# EAGLE library part DUMMY/PLCC68 (library F030NG)
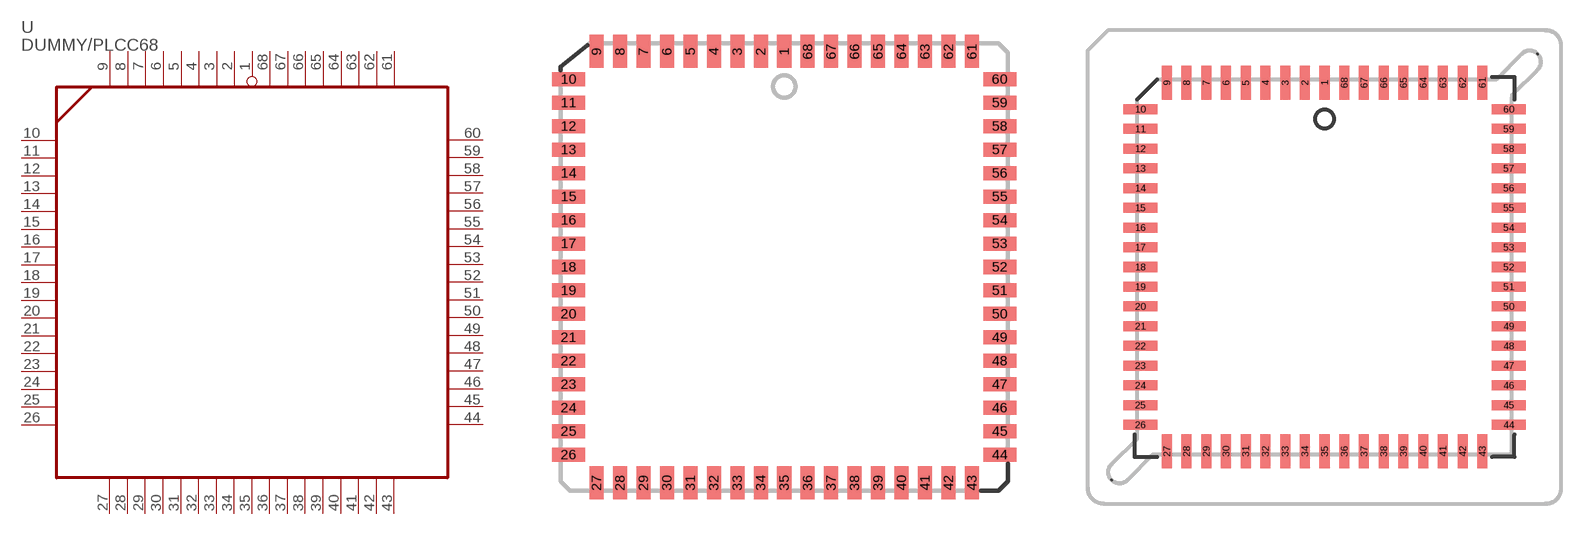
[diagram p95: symbol with the pads of PLCC68; footprints PLCC68, PLCC68S]

Designator prefix -

## DUMMY/PLCC68  [PLCC68]
1  P1
2  P2
3  P3
4  P4
5  P5
6  P6
7  P7
8  P8
9  P9
10  P10
11  P11
12  P12
13  P13
14  P14
15  P15
16  P16
17  P17
18  P18
19  P19
20  P20
21  P21
22  P22
23  P23
24  P24
25  P25
26  P26
27  P27
28  P28
29  P29
30  P30
31  P31
32  P32
33  P33
34  P34
35  P35
36  P36
37  P37
38  P38
39  P39
40  P40
41  P41
42  P42
43  P43
44  P44
45  P45
46  P46
47  P47
48  P48
49  P49
50  P50
51  P51
52  P52
53  P53
54  P54
55  P55
56  P56
57  P57
58  P58
59  P59
60  P60
61  P61
62  P62
63  P63
64  P64
65  P65
66  P66
67  P67
68  P68

## DUMMY/PLCC68SCKT  [PLCC68S]
Pads as for PLCC68

## Footprint PLCC68 (pad centres in mm)
PLASTIC LEADED CHIP CARRIER square
smd 0.76 x 1.8: 1 0,11.67; 2 -1.27,11.67; 3 -2.54,11.67; 4 -3.81,11.67; 5 -5.08,11.67; 6 -6.35,11.67; 7 -7.62,11.67; 8 -8.89,11.67; 9 -10.16,11.67; 27 -10.16,-11.67; 28 -8.89,-11.67; 29 -7.62,-11.67; 30 -6.35,-11.67; 31 -5.08,-11.67; 32 -3.81,-11.67; 33 -2.54,-11.67; 34 -1.27,-11.67; 35 0,-11.67; 36 1.27,-11.67; 37 2.54,-11.67; 38 3.81,-11.67; 39 5.08,-11.67; 40 6.35,-11.67; 41 7.62,-11.67; 42 8.89,-11.67; 43 10.16,-11.67; 61 10.16,11.67; 62 8.89,11.67; 63 7.62,11.67; 64 6.35,11.67; 65 5.08,11.67; 66 3.81,11.67; 67 2.54,11.67; 68 1.27,11.67
smd 1.8 x 0.76: 10 -11.67,10.16; 11 -11.67,8.89; 12 -11.67,7.62; 13 -11.67,6.35; 14 -11.67,5.08; 15 -11.67,3.81; 16 -11.67,2.54; 17 -11.67,1.27; 18 -11.67,0; 19 -11.67,-1.27; 20 -11.67,-2.54; 21 -11.67,-3.81; 22 -11.67,-5.08; 23 -11.67,-6.35; 24 -11.67,-7.62; 25 -11.67,-8.89; 26 -11.67,-10.16; 44 11.67,-10.16; 45 11.67,-8.89; 46 11.67,-7.62; 47 11.67,-6.35; 48 11.67,-5.08; 49 11.67,-3.81; 50 11.67,-2.54; 51 11.67,-1.27; 52 11.67,0; 53 11.67,1.27; 54 11.67,2.54; 55 11.67,3.81; 56 11.67,5.08; 57 11.67,6.35; 58 11.67,7.62; 59 11.67,8.89; 60 11.67,10.16

## Footprint PLCC68S (pad centres in mm)
PLCC-68 SMT-TT Source: http://www.3m.com/interconnects * Drawing: TS-1069-01
smd 0.65 x 2.2: 1 0,11.865; 2 -1.27,11.865; 3 -2.54,11.865; 4 -3.81,11.865; 5 -5.08,11.865; 6 -6.35,11.865; 7 -7.62,11.865; 8 -8.89,11.865; 9 -10.16,11.865; 27 -10.16,-11.865; 28 -8.89,-11.865; 29 -7.62,-11.865; 30 -6.35,-11.865; 31 -5.08,-11.865; 32 -3.81,-11.865; 33 -2.54,-11.865; 34 -1.27,-11.865; 35 0,-11.865; 36 1.27,-11.865; 37 2.54,-11.865; 38 3.81,-11.865; 39 5.08,-11.865; 40 6.35,-11.865; 41 7.62,-11.865; 42 8.89,-11.865; 43 10.16,-11.865; 61 10.16,11.865; 62 8.89,11.865; 63 7.62,11.865; 64 6.35,11.865; 65 5.08,11.865; 66 3.81,11.865; 67 2.54,11.865; 68 1.27,11.865
smd 2.2 x 0.65: 10 -11.865,10.16; 11 -11.865,8.89; 12 -11.865,7.62; 13 -11.865,6.35; 14 -11.865,5.08; 15 -11.865,3.81; 16 -11.865,2.54; 17 -11.865,1.27; 18 -11.865,0; 19 -11.865,-1.27; 20 -11.865,-2.54; 21 -11.865,-3.81; 22 -11.865,-5.08; 23 -11.865,-6.35; 24 -11.865,-7.62; 25 -11.865,-8.89; 26 -11.865,-10.16; 44 11.865,-10.16; 45 11.865,-8.89; 46 11.865,-7.62; 47 11.865,-6.35; 48 11.865,-5.08; 49 11.865,-3.81; 50 11.865,-2.54; 51 11.865,-1.27; 52 11.865,0; 53 11.865,1.27; 54 11.865,2.54; 55 11.865,3.81; 56 11.865,5.08; 57 11.865,6.35; 58 11.865,7.62; 59 11.865,8.89; 60 11.865,10.16